# EAGLE library part 39512-1006 (library molex)
3.81mm Pitch Eurostyle™ Horizontal PCB Header, 6 Circuits
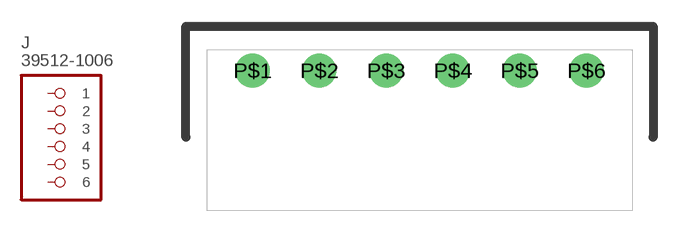
[diagram p0: symbol with the pads of 39512-1006; footprint 39512-1006]

Designator prefix J

## 39512-1006  [39512-1006]
P$1  1
P$2  2
P$3  3
P$4  4
P$5  5
P$6  6

## Footprint 39512-1006 (pad centres in mm)
drill 1.3: P$1 -9.525,0; P$2 -5.715,0; P$3 -1.905,0; P$4 1.905,0; P$5 5.715,0; P$6 9.525,0